# EAGLE library part W25X40CLSNIG (library flash-chips)
FLASH Memory IC 4Mb (512K x 8) SPI 104MHz 8-SOIC
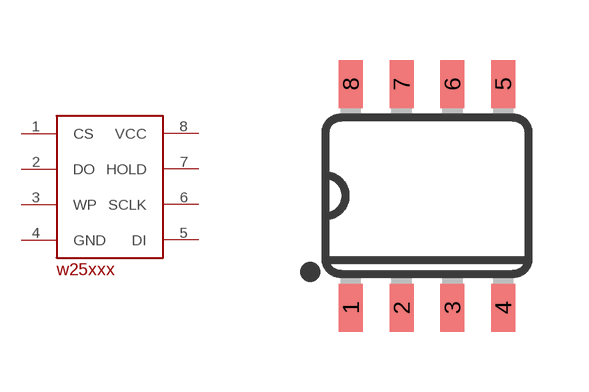
[diagram p0: symbol with the pads of SO08-0.15; footprint SO08-0.15]

Designator prefix -

## W25X40CLSNIG  [SO08-0.15]
1  CS
2  DO
3  WP
4  GND
5  DI
6  SCLK
7  HOLD
8  VCC

## Footprint SO08-0.15 (pad centres in mm)
8-Pin SOIC 150mil 0.154" (3.9mm) width. Fits JEDEC packages (narrow SOIC-8). Used by DS1077 and DS1307 programmable oscillators
smd 0.6 x 1.2: 1 -1.905,-2.8; 2 -0.635,-2.8; 3 0.635,-2.8; 4 1.905,-2.8; 5 1.905,2.8; 6 0.635,2.8; 7 -0.635,2.8; 8 -1.905,2.8